# Altium footprint library IC_SMT.PcbLib: 81 footprints (part 6 of 6)
Each footprint in its own frame and in the unit in brackets; x right, y up, seen from the top. Pads: shape width x height; smd on the part's side, far side on the other; paste and mask are expansions set on the pad; w line width, h text height; cw(c..) or ccw(c..) is an arc to the next point about the centre after c.
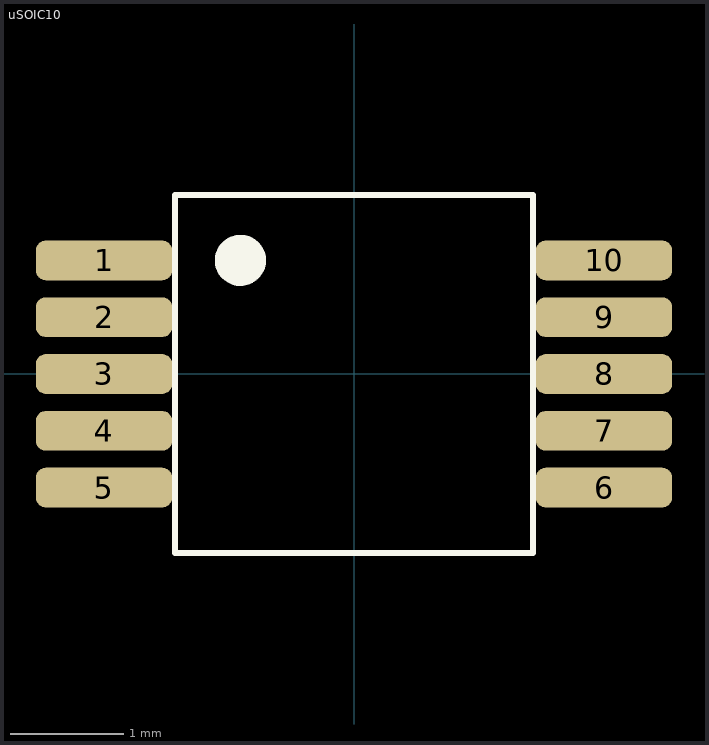
[diagram p5: the footprint, top view; thin cyan lines are the x and y axes]

## uSOIC10 [mm] "Analog Devices 10-lead uSOIC RM-10 Rev.1"
height 1.1
pads (10):
  rrect50% 1.2x0.35 smd: 1(-2.2,1) 2(-2.2,0.5) 3(-2.2,0) 6(2.2,-1) 7(2.2,-0.5) 8(2.2,0) 9(2.2,0.5) 10(2.2,1)
  rrect50% 1.2x0.35 smd mask+0.102: 4(-2.2,-0.5) 5(-2.2,-1)
Top Overlay:
  circle w0.25: c-1,1 r0.1
  lines w0.05: -2.125,-1 -1.575,-1 ; -2.125,-0.5 -1.575,-0.5 ; -2.125,0 -1.575,0 ; -2.125,0.5 -1.575,0.5 ; -2.125,1 -1.575,1 ; 1.575,-1 2.125,-1 ; 1.575,-0.5 2.125,-0.5 ; 1.575,0 2.125,0 ; 1.575,0.5 2.125,0.5 ; 1.575,1 2.125,1 ; -1.575,-1.575 -1.575,1.575 1.575,1.575 1.575,-1.575 -1.575,-1.575
  text ".Designator" at -0.875,-0.3 h1.5